# Altium footprint library ArduinoProMiniPCBLib.PcbLib: 13 footprints
Each footprint in its own frame and in the unit in brackets; x right, y up, seen from the top. Pads: shape width x height; smd on the part's side, far side on the other; paste and mask are expansions set on the pad; w line width, h text height; cw(c..) or ccw(c..) is an arc to the next point about the centre after c.
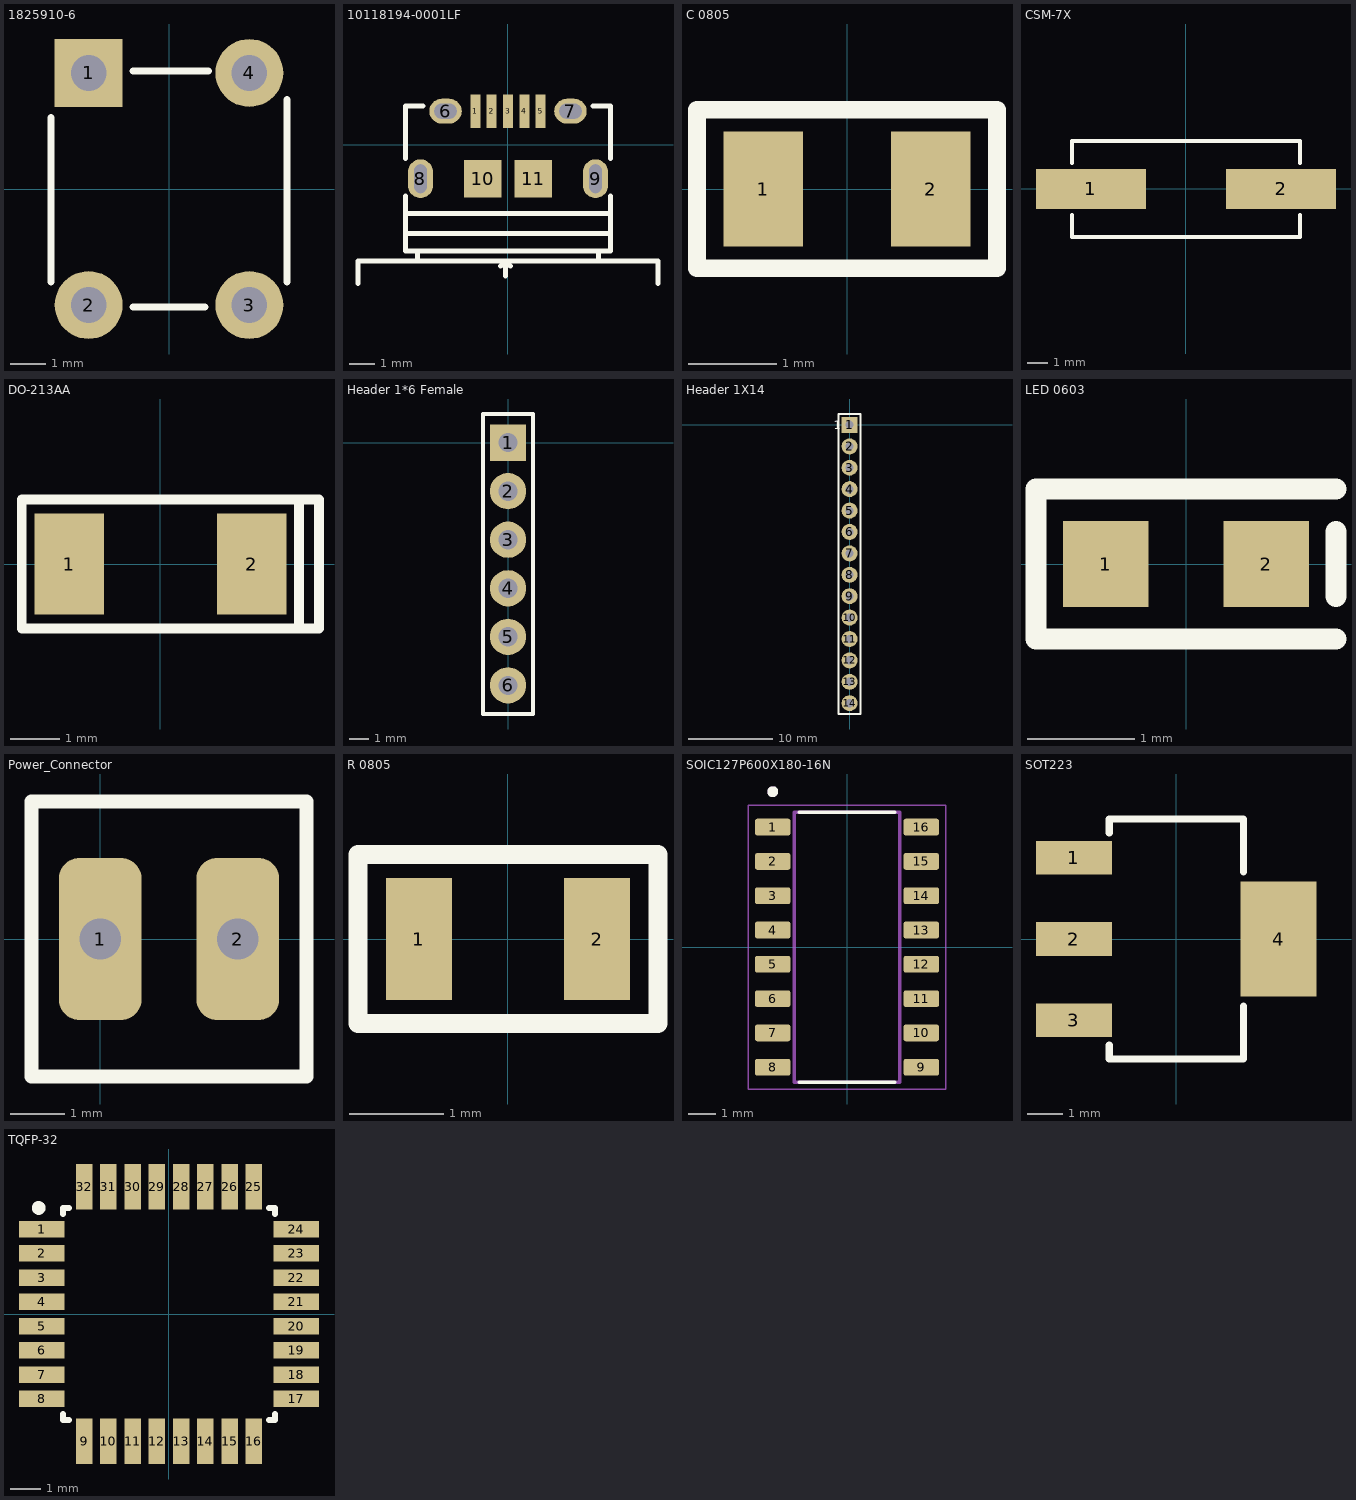
[diagram p0: the footprints below, top view; thin cyan lines are the x and y axes]

## 1825910-6 [mm]
pads (4):
  rect 1.9x1.9 / inner rect 19x1.9 / far side rect 1.9x1.9 hole 1: 1(-2.25,3.25)
  round 1.9 / inner oval 19x1.9 / far side round 1.9 hole 1: 2(-2.25,-3.25) 3(2.25,-3.25) 4(2.25,3.25)
Top Overlay:
  lines w0.2: -3.3,-2.6 -3.3,2 ; -1,-3.3 1,-3.3 ; -1,3.3 1.1,3.3 ; 3.3,-2.6 3.3,2.5
3D body "User Library-FSM4JH(1825910-6).step": height 5, standoff -3.51, extent -2.995,-3.898 2.995,3.9

## 10118194-0001LF [mm]
pads (11):
  rect 0.4x1.35 smd mask+0.06: 1(-1.3,1.35) 2(-0.65,1.35) 3(0,1.35) 4(0.65,1.35) 5(1.3,1.35)
  oval 1.3x1 hole 0.6 slot 0.9 at 0 deg mask+0.06: 6(-2.5,1.35) 7(2.5,1.35)
  oval 1x1.55 hole 0.5 slot 1.15 at 90 deg mask+0.06: 8(-3.5,-1.35) 9(3.5,-1.35)
  rect 1.5x1.5 smd mask+0.06: 10(-1,-1.35) 11(1,-1.35)
Top Overlay:
  lines w0.2: -6,-5.55 -6,-4.95 ; -6,-5.25 -6,-4.65 6,-4.65 6,-5.55 ; -4.1,-2.755 -4.095,-2.75 -3.5,-2.75 4.095,-2.75 ; -4.1,-2.05 -4.1,-4.25 -2.9,-4.25 4.1,-4.25 4.1,-2.05 ; -4.1,-0.55 -4.1,1.55 -3.4,1.55 ; -4.055,-3.55 -3.5,-3.55 4.077,-3.55 ; -3.622,-4.65 -3.622,-4.262 ; -0.3,-4.85 -0.15,-4.7 -0.05,-4.7 ; -0.1,-5.25 -0.1,-4.75 ; 0,-4.65 -0.1,-4.75 ; 0.1,-4.85 0,-4.75 -0.1,-4.75 ; 3.4,1.55 4.1,1.55 4.1,-0.55 ; 3.625,-4.65 3.625,-4.25
3D body "10118194c.stp": height 2.77, standoff -0.7, extent -4.05,-4.196 4,1.496

## C 0805 [mm]
pads (2):
  rect 0.9x1.3 smd: 1(-0.95,0) 2(0.95,0)
Top Overlay:
  lines w0.2: -1.7,-0.9 -1.7,0.9 1.7,0.9 1.7,-0.9 -1.7,-0.9
3D body "User Library-User Library-0805(2012M) Cap.step": height 1.3, standoff 0.01, extent -1,-0.645 1,0.645

## CSM-7X [mm]
pads (2):
  rect 5.5x2 smd: 1(-4.75,0) 2(4.75,0)
Top Overlay:
  lines w0.2: -5.7,-1.3 -5.7,-2.4 5.7,-2.4 5.7,-1.3 ; -5.7,1.3 -5.7,2.4 5.7,2.4 5.7,1.3
3D body "User Library-ECS-240-20-5PX-TR.step": height 4.31, standoff 0.01, extent -6.6,-2.4 6.6,2.4

## DO-213AA [mm]
pads (2):
  rect 1.4x2.03 smd: 1(-1.84,0) 2(1.84,0)
Top Overlay:
  lines w0.2: 2.8,-1.3 -2.8,-1.3 -2.8,1.3 2.8,1.3 ; 2.8,-1.3 2.8,1.3 ; 2.8,-1.3 3.2,-1.3 3.2,1.3 2.8,1.3
3D body "User Library-MiniMelf-2.step": height 1.6, standoff 0, extent -1.82,-0.8 1.88,0.8

## Header 1*6 Female [mm]
pads (6):
  rect 1.9x1.9 hole 1: 1(0,0)
  round 1.9 hole 1: 2(0,-2.54) 3(0,-5.08) 4(0,-7.62) 5(0,-10.16) 6(0,-12.7)
Top Overlay:
  lines w0.2: -1.3,-14.2 1.3,-14.2 1.3,1.5 -1.3,1.5 -1.3,-14.2
3D body "m20-7820646_asm.stp": height 8.51, standoff -2.99, extent -1.25,-14.17 1.25,1.47

## Header 1X14 [mm]
pads (14):
  rect 1.9x1.9 hole 1: 1(0,0)
  round 1.9 hole 1: 2(0,-2.54) 3(0,-5.08) 4(0,-7.62) 5(0,-10.16) 6(0,-12.7) 7(0,-15.24) 8(0,-17.78) 9(0,-20.32) 10(0,-22.86) 11(0,-25.4) 12(0,-27.94) 13(0,-30.48) 14(0,-33.02)
Top Overlay:
  lines w0.2: -1.3,-34.3 1.3,-34.3 1.3,1.3 -1.3,1.3 -1.3,-34.3
  text "1" at -1.9,-0.5 h1
3D body "User Library-2_54mmheader14.STEP": height 8.51, standoff -2.88, extent -1.27,-34.29 1.27,1.27

## LED 0603 [mm]
pads (2):
  rect 0.8x0.8 smd: 1(-0.75,0) 2(0.75,0)
Top Overlay:
  lines w0.2: 1.4,-0.7 -1.4,-0.7 -1.4,0.7 1.4,0.7 ; 1.4,-0.3 1.4,0.3
3D body "User Library-LED SMD0603.step": height 0.68, standoff 0, extent -0.825,-0.369 0.825,0.356

## Power_Connector [mil]
pads (2):
  rrect50% 60x118.11 hole 30 unplated paste-99999: 1(0,0)
  rrect50% 60x118.11 hole 30 unplated: 2(100,0)
Top Overlay:
  lines w10: -50,-100 150,-100 150,100 -50,100 -50,-100

## R 0805 [mm]
pads (2):
  rect 0.7x1.3 smd: 1(-0.95,0) 2(0.95,0)
Top Overlay:
  lines w0.2: -1.6,-0.9 1.6,-0.9 1.6,0.9 -1.6,0.9 -1.6,-0.9
3D body "User Library-CR2012-0805.step": height 0.61, standoff 0.01, extent -1,-0.625 1,0.625

## SOIC127P600X180-16N [mm]
height 1.8
pads (16):
  rrect25% 1.31x0.62 smd: 1(-2.75,4.445) 2(-2.75,3.175) 3(-2.75,1.905) 4(-2.75,0.635) 5(-2.75,-0.635) 6(-2.75,-1.905) 7(-2.75,-3.175) 8(-2.75,-4.445) 9(2.75,-4.445) 10(2.75,-3.175) 11(2.75,-1.905) 12(2.75,-0.635) 13(2.75,0.635) 14(2.75,1.905) 15(2.75,3.175) 16(2.75,4.445)
Top Overlay:
  circle w0.2: c-2.75,5.755 r0.1
  lines w0.127: -1.775,-5 1.775,-5 ; -1.775,5 1.775,5
Mechanical 13:
  circle w0.2: c-2.75,5.755 r0.1
  lines w0.127: -1.95,-5 1.95,-5 1.95,5 -1.95,5 -1.95,-5
Mechanical 15:
  lines w0.05: -3.655,-5.25 3.655,-5.25 3.655,5.25 -3.655,5.25 -3.655,-5.25
3D body "step_temp.STEP": height 1.8, standoff 0, extent -3,-5 3,5

## SOT223 [mm]
pads (4):
  rect 2.15x0.95 smd: 1(-2.9,2.3) 2(-2.9,0) 3(-2.9,-2.3)
  rect 2.15x3.25 smd: 4(2.9,0)
Top Overlay:
  lines w0.2: -1.9,-3 -1.9,-3.4 1.9,-3.4 1.9,-1.9 ; -1.9,3 -1.9,3.4 1.9,3.4 1.9,1.9
3D body "User Library-SOT-223-1.step": height 1.66, standoff 0.01, extent -3.5,-3.25 3.5,3.25

## TQFP-32 [mm]
pads (32):
  rect 1.5x0.55 smd mask+0.06: 1(-4.2,2.8) 2(-4.2,2) 3(-4.2,1.2) 4(-4.2,0.4) 5(-4.2,-0.4) 6(-4.2,-1.2) 7(-4.2,-2) 8(-4.2,-2.8) 17(4.2,-2.8) 18(4.2,-2) 19(4.2,-1.2) 20(4.2,-0.4) 21(4.2,0.4) 22(4.2,1.2) 23(4.2,2) 24(4.2,2.8)
  rect 0.55x1.5 smd mask+0.06: 9(-2.8,-4.2) 10(-2,-4.2) 11(-1.2,-4.2) 12(-0.4,-4.2) 13(0.4,-4.2) 14(1.2,-4.2) 15(2,-4.2) 16(2.8,-4.2) 25(2.8,4.2) 26(2,4.2) 27(1.2,4.2) 28(0.4,4.2) 29(-0.4,4.2) 30(-1.2,4.2) 31(-2,4.2) 32(-2.8,4.2)
Top Overlay:
  circle w0.254: c-4.3,3.5 r0.1
  lines w0.2: -3.5,-3.3 -3.5,-3.5 -3.3,-3.5 ; -3.5,3.3 -3.5,3.5 -3.3,3.5 ; 3.3,-3.5 3.5,-3.5 3.5,-3.3 ; 3.3,3.5 3.5,3.5 3.5,3.3
3D body "User Library-TQFP32-1.STEP": height 1.1, standoff 0, extent -4.509,-4.509 4.509,4.509